# Altium footprint library CDRH127.PcbLib: 1 footprints
Each footprint in its own frame and in the unit in brackets; x right, y up, seen from the top. Pads: shape width x height; smd on the part's side, far side on the other; paste and mask are expansions set on the pad; w line width, h text height; cw(c..) or ccw(c..) is an arc to the next point about the centre after c.
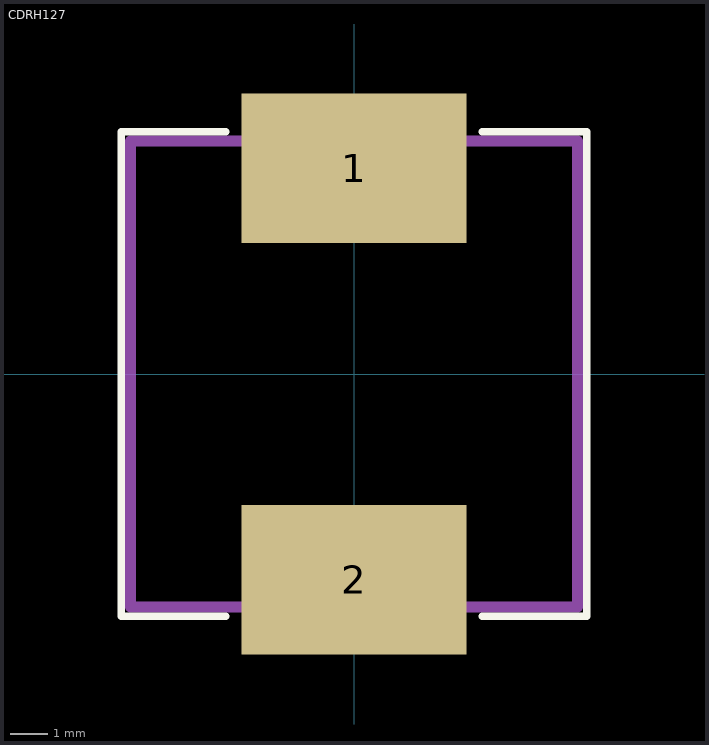
[diagram p0: the footprint, top view; thin cyan lines are the x and y axes]

## CDRH127 [mm]
pads (2):
  rect 6x4 smd: 1(0,5.5) 2(0,-5.5)
Top Overlay:
  lines w0.2: -3.429,-6.477 -6.223,-6.477 -6.223,6.477 -3.429,6.477 ; 3.429,-6.477 6.223,-6.477 6.223,6.477 3.429,6.477
Mechanical 13:
  lines w0.3: -5.969,-6.223 -5.969,6.223 5.969,6.223 5.969,-6.223 -5.969,-6.223
  text ".Designator" at -4.572,-0.889 h2.5
3D body: height 7.5, standoff 0.05, extent -6,-6.171 6,6.171